# EAGLE library part IPG20N06S2L-65 (library hsk_2012)
Infineon OptiMOS® Power-Transistor IPG20N06S2L-65 Product Summary V_DS 55 V R_DS(on),max 65 mΩ I_D 20 A Features • Dual N-channel Logic Level - Enhancement mode • AEC Q101 qualified • MSL1 up to 260°C peak reflow • 175°C operating temperature • Green Product (RoHS compliant) • 100% Avalanche tested Type Package Marking IPG20N06S2L-65 PG-TDSON-8-4 2N06L65
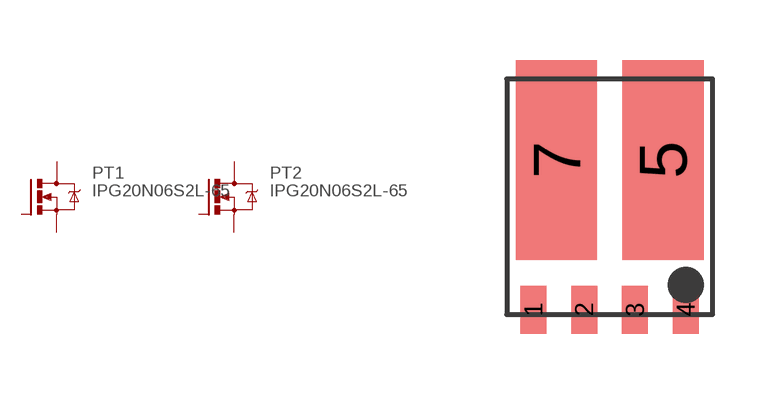
[diagram p25: symbol with the pads of PG-TDSON-8-4; footprint PG-TDSON-8-4]

Designator prefix PT; gates 1=MFNS 2=MFNS

## IPG20N06S2L-65_OR  [PG-TDSON-8-4]
1  1:S  pas
2  1:G  pas
3  2:S  pas
4  2:G  pas
5  2:D  pas
7  1:D  pas

## Footprint PG-TDSON-8-4 (pad centres in mm)
Infineon PG-TDSON-8-4 Package
smd 0.65 x 1.2: 1 -1.905,-2.825; 2 -0.635,-2.825; 3 0.635,-2.825; 4 1.905,-2.825
smd 2.035 x 5: 5 1.333,0.925; 7 -1.333,0.925